# Altium footprint library Display_7Segment.PcbLib: 53 footprints (part 3 of 4)
Each footprint in its own frame and in the unit in brackets; x right, y up, seen from the top. Pads: shape width x height; smd on the part's side, far side on the other; paste and mask are expansions set on the pad; w line width, h text height; cw(c..) or ccw(c..) is an arc to the next point about the centre after c.
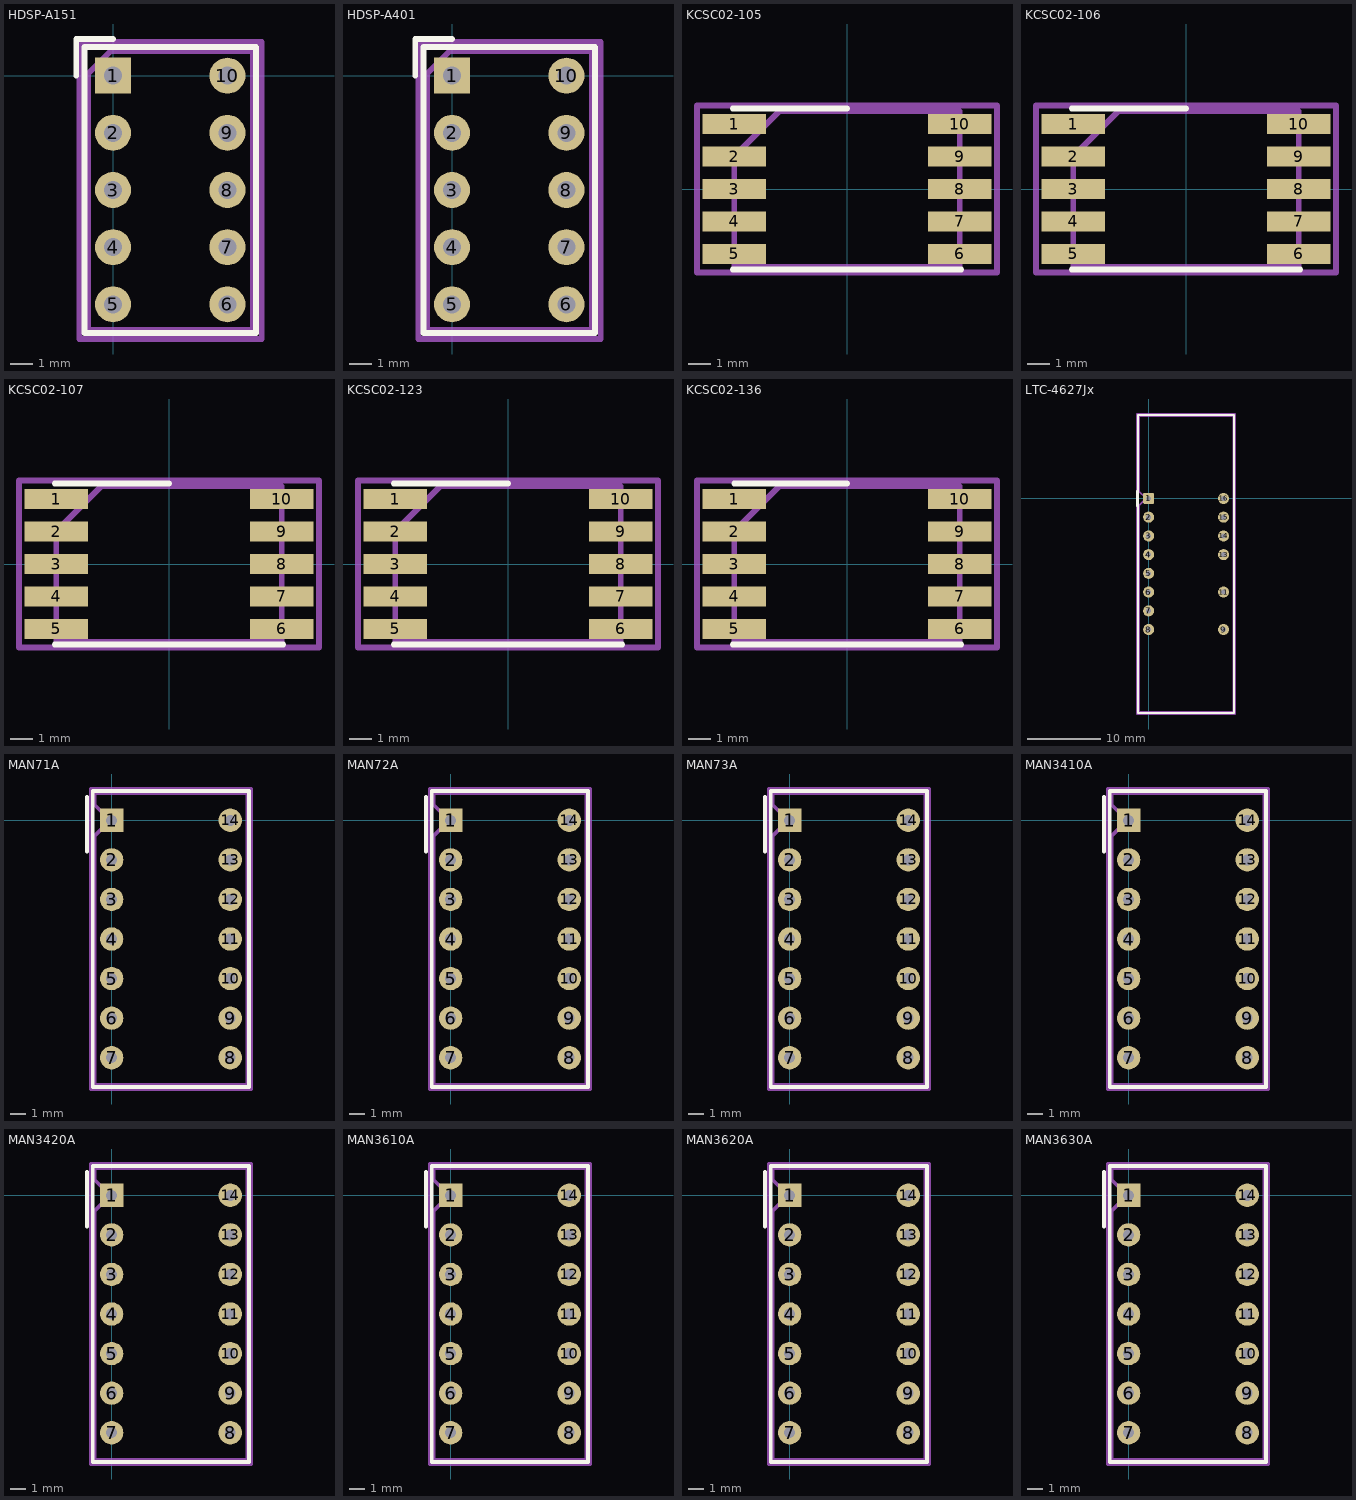
[diagram p2: the footprints below, top view; thin cyan lines are the x and y axes]

## HDSP-A151 [mm]
pads (10):
  rect 1.6x1.6 hole 0.8: 1(0,0)
  round 1.6 hole 0.8: 2(0,-2.54) 3(0,-5.08) 4(0,-7.62) 5(0,-10.16) 6(5.08,-10.16) 7(5.08,-7.62) 8(5.08,-5.08) 9(5.08,-2.54) 10(5.08,0)
F.SilkS:
  lines w0.254: -1.63,0 -1.63,1.63 0,1.63 ; -1.27,-11.43 6.35,-11.43 6.35,1.27 -1.27,1.27 -1.27,-11.43
Top Assembly:
  lines w0.254: -1.1,-11.3 6.2,-11.3 6.2,1.1 -0.1,1.1 -1.1,0.1 -1.1,-11.3
  text "'.Designator'" at -1.474,-5.92 h1
Top Courtyard:
  lines w0.254: -1.5,-11.7 6.6,-11.7 6.6,1.5 -1.5,1.5 -1.5,-11.7
Top Designator:
  text ".Designator" at -5.133,-5.543 h1.52

## HDSP-A401 [mm]
pads (10):
  rect 1.6x1.6 hole 0.8: 1(0,0)
  round 1.6 hole 0.8: 2(0,-2.54) 3(0,-5.08) 4(0,-7.62) 5(0,-10.16) 6(5.08,-10.16) 7(5.08,-7.62) 8(5.08,-5.08) 9(5.08,-2.54) 10(5.08,0)
F.SilkS:
  lines w0.254: -1.63,0 -1.63,1.63 0,1.63 ; -1.27,-11.43 6.35,-11.43 6.35,1.27 -1.27,1.27 -1.27,-11.43
Top Assembly:
  lines w0.254: -1.1,-11.3 6.2,-11.3 6.2,1.1 -0.1,1.1 -1.1,0.1 -1.1,-11.3
  text "'.Designator'" at -1.474,-5.92 h1
Top Courtyard:
  lines w0.254: -1.5,-11.7 6.6,-11.7 6.6,1.5 -1.5,1.5 -1.5,-11.7
Top Designator:
  text ".Designator" at -5.133,-5.543 h1.52

## KCSC02-105 [mm]
pads (10):
  rect 2.8x0.9 smd: 1(-5,2.88) 2(-5,1.44) 3(-5,0) 4(-5,-1.44) 5(-5,-2.88) 6(5,-2.88) 7(5,-1.44) 8(5,0) 9(5,1.44) 10(5,2.88)
F.SilkS:
  lines w0.254: -5.06,-3.57 5.06,-3.57 ; -5.06,3.57 0,3.57
Top Assembly:
  lines w0.254: -5,-3.45 5,-3.45 5,3.45 -3,3.45 -5,1.45 -5,-3.45
  text "'.Designator'" at -3.437,-0.85 h1
Top Courtyard:
  lines w0.254: -6.65,-3.7 6.65,-3.7 6.65,3.7 -6.65,3.7 -6.65,-3.7
Top Designator:
  text ".Designator" at -7.618,-0.508 h1.52

## KCSC02-106 [mm]
pads (10):
  rect 2.8x0.9 smd: 1(-5,2.88) 2(-5,1.44) 3(-5,0) 4(-5,-1.44) 5(-5,-2.88) 6(5,-2.88) 7(5,-1.44) 8(5,0) 9(5,1.44) 10(5,2.88)
F.SilkS:
  lines w0.254: -5.06,-3.57 5.06,-3.57 ; -5.06,3.57 0,3.57
Top Assembly:
  lines w0.254: -5,-3.45 5,-3.45 5,3.45 -3,3.45 -5,1.45 -5,-3.45
  text "'.Designator'" at -3.437,-0.85 h1
Top Courtyard:
  lines w0.254: -6.65,-3.7 6.65,-3.7 6.65,3.7 -6.65,3.7 -6.65,-3.7
Top Designator:
  text ".Designator" at -7.618,-0.508 h1.52

## KCSC02-107 [mm]
pads (10):
  rect 2.8x0.9 smd: 1(-5,2.88) 2(-5,1.44) 3(-5,0) 4(-5,-1.44) 5(-5,-2.88) 6(5,-2.88) 7(5,-1.44) 8(5,0) 9(5,1.44) 10(5,2.88)
F.SilkS:
  lines w0.254: -5.06,-3.57 5.06,-3.57 ; -5.06,3.57 0,3.57
Top Assembly:
  lines w0.254: -5,-3.45 5,-3.45 5,3.45 -3,3.45 -5,1.45 -5,-3.45
  text "'.Designator'" at -3.437,-0.85 h1
Top Courtyard:
  lines w0.254: -6.65,-3.7 6.65,-3.7 6.65,3.7 -6.65,3.7 -6.65,-3.7
Top Designator:
  text ".Designator" at -7.618,-0.508 h1.52

## KCSC02-123 [mm]
pads (10):
  rect 2.8x0.9 smd: 1(-5,2.88) 2(-5,1.44) 3(-5,0) 4(-5,-1.44) 5(-5,-2.88) 6(5,-2.88) 7(5,-1.44) 8(5,0) 9(5,1.44) 10(5,2.88)
F.SilkS:
  lines w0.254: -5.06,-3.57 5.06,-3.57 ; -5.06,3.57 0,3.57
Top Assembly:
  lines w0.254: -5,-3.45 5,-3.45 5,3.45 -3,3.45 -5,1.45 -5,-3.45
  text "'.Designator'" at -3.437,-0.85 h1
Top Courtyard:
  lines w0.254: -6.65,-3.7 6.65,-3.7 6.65,3.7 -6.65,3.7 -6.65,-3.7
Top Designator:
  text ".Designator" at -7.618,-0.508 h1.52

## KCSC02-136 [mm]
pads (10):
  rect 2.8x0.9 smd: 1(-5,2.88) 2(-5,1.44) 3(-5,0) 4(-5,-1.44) 5(-5,-2.88) 6(5,-2.88) 7(5,-1.44) 8(5,0) 9(5,1.44) 10(5,2.88)
F.SilkS:
  lines w0.254: -5.06,-3.57 5.06,-3.57 ; -5,3.57 0,3.57
Top Assembly:
  lines w0.254: -5,-3.45 5,-3.45 5,3.45 -3,3.45 -5,1.45 -5,-3.45
  text "'.Designator'" at -3.437,-0.85 h1
Top Courtyard:
  lines w0.254: -6.65,-3.7 6.65,-3.7 6.65,3.7 -6.65,3.7 -6.65,-3.7
Top Designator:
  text ".Designator" at -7.618,-0.508 h1.52

## LTC-4627Jx [mm]
pads (14):
  rrect25% 1.5x1.5 hole 0.7: 1(0,0)
  round 1.5 hole 0.7: 2(0,-2.54) 3(0,-5.08) 4(0,-7.62) 5(0,-10.16) 6(0,-12.7) 7(0,-15.24) 8(0,-17.78) 9(10.16,-17.78) 11(10.16,-12.7) 13(10.16,-7.62) 14(10.16,-5.08) 15(10.16,-2.54) 16(10.16,0)
F.SilkS:
  lines w0.254: -1.6,-1 -1.6,1 ; -1.43,-29.09 11.59,-29.09 11.59,11.31 -1.43,11.31 -1.43,-29.09
Top Assembly:
  lines w0.254: -1.32,-28.98 11.48,-28.98 11.48,11.2 -1.32,11.2 -1.32,1 -0.32,0 -1.32,-1 -1.32,-28.98
  text "'.Designator'" at 1.033,-9.73 h1
Top Courtyard:
  lines w0.254: -1.57,-29.23 11.73,-29.23 11.73,11.45 -1.57,11.45 -1.57,-29.23
Top Designator:
  text ".Designator" at -2.553,-9.398 h1.52

## MAN71A [mm]
pads (14):
  rect 1.5x1.5 hole 0.7: 1(0,0)
  round 1.5 hole 0.7: 2(0,-2.54) 3(0,-5.08) 4(0,-7.62) 5(0,-10.16) 6(0,-12.7) 7(0,-15.24) 8(7.62,-15.24) 9(7.62,-12.7) 10(7.62,-10.16) 11(7.62,-7.62) 12(7.62,-5.08) 13(7.62,-2.54) 14(7.62,0)
F.SilkS:
  lines w0.254: -1.59,-2 -1.59,1.5 ; -1.21,-17.115 8.83,-17.115 8.83,1.875 -1.21,1.875 -1.21,-17.115
Top Assembly:
  lines w0.254: -1.09,-16.995 8.71,-16.995 8.71,1.755 -1.09,1.755 -1.09,1 -0.09,0 -1.09,-1 -1.09,-16.995
  text "'.Designator'" at -0.247,-8.64 h1
Top Courtyard:
  lines w0.254: -1.34,-17.25 8.96,-17.25 8.96,2.01 -1.34,2.01 -1.34,-17.25
Top Designator:
  text ".Designator" at -3.933,-8.128 h1.52

## MAN72A [mm]
pads (14):
  rect 1.5x1.5 hole 0.7: 1(0,0)
  round 1.5 hole 0.7: 2(0,-2.54) 3(0,-5.08) 4(0,-7.62) 5(0,-10.16) 6(0,-12.7) 7(0,-15.24) 8(7.62,-15.24) 9(7.62,-12.7) 10(7.62,-10.16) 11(7.62,-7.62) 12(7.62,-5.08) 13(7.62,-2.54) 14(7.62,0)
F.SilkS:
  lines w0.254: -1.59,-2 -1.59,1.5 ; -1.21,-17.115 8.83,-17.115 8.83,1.875 -1.21,1.875 -1.21,-17.115
Top Assembly:
  lines w0.254: -1.09,-16.995 8.71,-16.995 8.71,1.755 -1.09,1.755 -1.09,1 -0.09,0 -1.09,-1 -1.09,-16.995
  text "'.Designator'" at -0.247,-8.64 h1
Top Courtyard:
  lines w0.254: -1.34,-17.25 8.96,-17.25 8.96,2.01 -1.34,2.01 -1.34,-17.25
Top Designator:
  text ".Designator" at -3.933,-8.128 h1.52

## MAN73A [mm]
pads (14):
  rect 1.5x1.5 hole 0.7: 1(0,0)
  round 1.5 hole 0.7: 2(0,-2.54) 3(0,-5.08) 4(0,-7.62) 5(0,-10.16) 6(0,-12.7) 7(0,-15.24) 8(7.62,-15.24) 9(7.62,-12.7) 10(7.62,-10.16) 11(7.62,-7.62) 12(7.62,-5.08) 13(7.62,-2.54) 14(7.62,0)
F.SilkS:
  lines w0.254: -1.59,-2 -1.59,1.5 ; -1.21,-17.115 8.83,-17.115 8.83,1.875 -1.21,1.875 -1.21,-17.115
Top Assembly:
  lines w0.254: -1.09,-16.995 8.71,-16.995 8.71,1.755 -1.09,1.755 -1.09,1 -0.09,0 -1.09,-1 -1.09,-16.995
  text "'.Designator'" at -0.247,-8.64 h1
Top Courtyard:
  lines w0.254: -1.34,-17.25 8.96,-17.25 8.96,2.01 -1.34,2.01 -1.34,-17.25
Top Designator:
  text ".Designator" at -3.933,-8.128 h1.52

## MAN3410A [mm]
pads (14):
  rect 1.5x1.5 hole 0.7: 1(0,0)
  round 1.5 hole 0.7: 2(0,-2.54) 3(0,-5.08) 4(0,-7.62) 5(0,-10.16) 6(0,-12.7) 7(0,-15.24) 8(7.62,-15.24) 9(7.62,-12.7) 10(7.62,-10.16) 11(7.62,-7.62) 12(7.62,-5.08) 13(7.62,-2.54) 14(7.62,0)
F.SilkS:
  lines w0.254: -1.59,-2 -1.59,1.5 ; -1.21,-17.115 8.83,-17.115 8.83,1.875 -1.21,1.875 -1.21,-17.115
Top Assembly:
  lines w0.254: -1.09,-16.995 8.71,-16.995 8.71,1.755 -1.09,1.755 -1.09,1 -0.09,0 -1.09,-1 -1.09,-16.995
  text "'.Designator'" at -0.247,-8.64 h1
Top Courtyard:
  lines w0.254: -1.34,-17.25 8.96,-17.25 8.96,2.01 -1.34,2.01 -1.34,-17.25
Top Designator:
  text ".Designator" at -3.933,-8.128 h1.52

## MAN3420A [mm]
pads (14):
  rect 1.5x1.5 hole 0.7: 1(0,0)
  round 1.5 hole 0.7: 2(0,-2.54) 3(0,-5.08) 4(0,-7.62) 5(0,-10.16) 6(0,-12.7) 7(0,-15.24) 8(7.62,-15.24) 9(7.62,-12.7) 10(7.62,-10.16) 11(7.62,-7.62) 12(7.62,-5.08) 13(7.62,-2.54) 14(7.62,0)
F.SilkS:
  lines w0.254: -1.59,-2 -1.59,1.5 ; -1.21,-17.115 8.83,-17.115 8.83,1.875 -1.21,1.875 -1.21,-17.115
Top Assembly:
  lines w0.254: -1.09,-16.995 8.71,-16.995 8.71,1.755 -1.09,1.755 -1.09,1 -0.09,0 -1.09,-1 -1.09,-16.995
  text "'.Designator'" at -0.247,-8.64 h1
Top Courtyard:
  lines w0.254: -1.34,-17.25 8.96,-17.25 8.96,2.01 -1.34,2.01 -1.34,-17.25
Top Designator:
  text ".Designator" at -3.933,-8.128 h1.52

## MAN3610A [mm]
pads (14):
  rect 1.5x1.5 hole 0.7: 1(0,0)
  round 1.5 hole 0.7: 2(0,-2.54) 3(0,-5.08) 4(0,-7.62) 5(0,-10.16) 6(0,-12.7) 7(0,-15.24) 8(7.62,-15.24) 9(7.62,-12.7) 10(7.62,-10.16) 11(7.62,-7.62) 12(7.62,-5.08) 13(7.62,-2.54) 14(7.62,0)
F.SilkS:
  lines w0.254: -1.59,-2 -1.59,1.5 ; -1.21,-17.115 8.83,-17.115 8.83,1.875 -1.21,1.875 -1.21,-17.115
Top Assembly:
  lines w0.254: -1.09,-16.995 8.71,-16.995 8.71,1.755 -1.09,1.755 -1.09,1 -0.09,0 -1.09,-1 -1.09,-16.995
  text "'.Designator'" at -0.247,-8.64 h1
Top Courtyard:
  lines w0.254: -1.34,-17.25 8.96,-17.25 8.96,2.01 -1.34,2.01 -1.34,-17.25
Top Designator:
  text ".Designator" at -3.933,-8.128 h1.52

## MAN3620A [mm]
pads (14):
  rect 1.5x1.5 hole 0.7: 1(0,0)
  round 1.5 hole 0.7: 2(0,-2.54) 3(0,-5.08) 4(0,-7.62) 5(0,-10.16) 6(0,-12.7) 7(0,-15.24) 8(7.62,-15.24) 9(7.62,-12.7) 10(7.62,-10.16) 11(7.62,-7.62) 12(7.62,-5.08) 13(7.62,-2.54) 14(7.62,0)
F.SilkS:
  lines w0.254: -1.59,-2 -1.59,1.5 ; -1.21,-17.115 8.83,-17.115 8.83,1.875 -1.21,1.875 -1.21,-17.115
Top Assembly:
  lines w0.254: -1.09,-16.995 8.71,-16.995 8.71,1.755 -1.09,1.755 -1.09,1 -0.09,0 -1.09,-1 -1.09,-16.995
  text "'.Designator'" at -0.247,-8.64 h1
Top Courtyard:
  lines w0.254: -1.34,-17.25 8.96,-17.25 8.96,2.01 -1.34,2.01 -1.34,-17.25
Top Designator:
  text ".Designator" at -3.933,-8.128 h1.52

## MAN3630A [mm]
pads (14):
  rect 1.5x1.5 hole 0.7: 1(0,0)
  round 1.5 hole 0.7: 2(0,-2.54) 3(0,-5.08) 4(0,-7.62) 5(0,-10.16) 6(0,-12.7) 7(0,-15.24) 8(7.62,-15.24) 9(7.62,-12.7) 10(7.62,-10.16) 11(7.62,-7.62) 12(7.62,-5.08) 13(7.62,-2.54) 14(7.62,0)
F.SilkS:
  lines w0.254: -1.59,-2 -1.59,1.5 ; -1.21,-17.115 8.83,-17.115 8.83,1.875 -1.21,1.875 -1.21,-17.115
Top Assembly:
  lines w0.254: -1.09,-16.995 8.71,-16.995 8.71,1.755 -1.09,1.755 -1.09,1 -0.09,0 -1.09,-1 -1.09,-16.995
  text "'.Designator'" at -0.247,-8.64 h1
Top Courtyard:
  lines w0.254: -1.34,-17.25 8.96,-17.25 8.96,2.01 -1.34,2.01 -1.34,-17.25
Top Designator:
  text ".Designator" at -3.933,-8.128 h1.52